# Altium schematic symbol library Schlib2.SchLib: 19 symbols
Pins are listed as number, name and electrical type; pins without a type are passive.

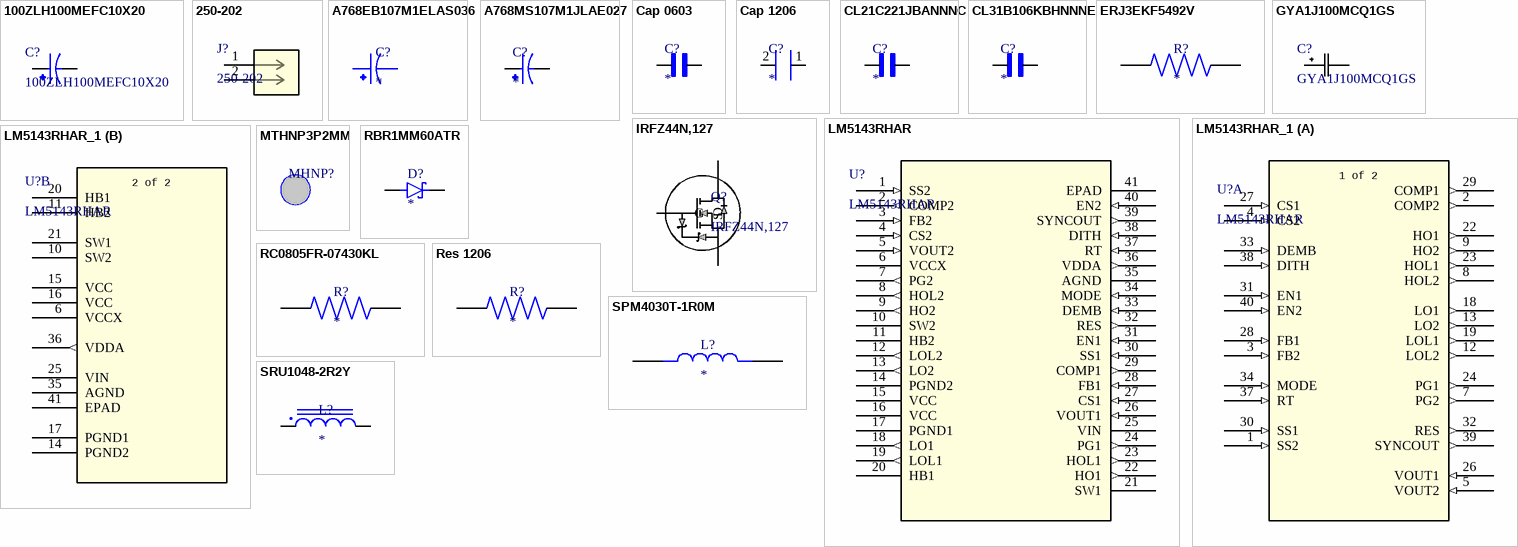
[diagram p0: symbols 100ZLH100MEFC10X20 to SRU1048-2R2Y]

## 100ZLH100MEFC10X20
designator C?
Description; Manufacturer_Name: Rubycon; Copyright: Copyright (C) 2025 Ultra Librarian. All rights reserved.; Manufacturer_Part_Number: 100ZLH100MEFC10X20
footprint CAP_YX_10X20_RUB
pins: 1, 2

## 250-202
designator J?
Description; Manufacturer_Name: Wago; Copyright: Copyright (C) 2025 Ultra Librarian. All rights reserved.; Manufacturer_Part_Number: 250-202; RefDes: RefDes; Type: Type
footprint CONN2_250-202_WAG
pins: 1, 2

## A768EB107M1ELAS036
designator C?
100 ÂµF 25 V Aluminum - Polymer Capacitors Radial, Can - SMD 36mOhm 2000 Hrs @ 125Â°C; MF: KEMET; MP: A768EB107M1ELAS036; SnapEDA_Link: https://www.snapeda.com/parts/A768EB107M1ELAS036/Kemet/view-part/?ref=snap; Package: None; Value: *; Check_prices: https://www.snapeda.com/parts/A768EB107M1ELAS036/Kemet/view-part/?ref=eda
footprint CAPAE660X600N
pins: 1, 2

## A768MS107M1JLAE027
designator C?
100 ÂµF 63 V Aluminum - Polymer Capacitors Radial, Can - SMD 27mOhm 2000 Hrs @ 125Â°C; MF: KEMET; MP: A768MS107M1JLAE027; SnapEDA_Link: https://www.snapeda.com/parts/A768MS107M1JLAE027/Kemet/view-part/?ref=snap; Package: None; Value: *; Check_prices: https://www.snapeda.com/parts/A768MS107M1JLAE027/Kemet/view-part/?ref=eda
footprint CAPAE1030X1225N
pins: 1, 2

## Cap 0603
designator C?
0603 (1608 Metric) 0.47 ÂµF Â±10% 25V Ceramic Capacitor X7R Originally: CL10B474KA8NFNC; MF: Samsung Electro-Mechanics; SnapEDA_Link: https://www.snapeda.com/parts/CL10B474KA8NFNC/Samsung/view-part/?ref=snap; Package: SMD-2 Samsung; Value: *; MP: CL10B474KA8NFNC; Check_prices: https://www.snapeda.com/parts/CL10B474KA8NFNC/Samsung/view-part/?ref=eda
footprint CAPC1608X90N
pins: 1, 2

## Cap 1206
designator C?
Generic SMD capacitor with 1206 package (3216 metric)
footprint Cap 1206 (Generic SMD capacitor with 1206 package (3216 metric))
pins: 1, 2

## CL21C221JBANNNC
designator C?
0805 (2012 Metric) 220 pF Â±5% 50V Ceramic Capacitor C0G, NP0; MF: Samsung; MP: CL21C221JBANNNC; SnapEDA_Link: https://www.snapeda.com/parts/CL21C221JBANNNC/Samsung/view-part/?ref=snap; Package: SMD-2 Samsung; Value: *; Check_prices: https://www.snapeda.com/parts/CL21C221JBANNNC/Samsung/view-part/?ref=eda
footprint CAPC2012X75N
pins: 1, 2

## CL31B106KBHNNNE
designator C?
10 ÂµF Â±10% 50V Ceramic Capacitor X7R 1206 (3216 Metric); MF: Samsung Electro-Mechanics; MP: CL31B106KBHNNNE; SnapEDA_Link: https://www.snapeda.com/parts/CL31B106KBHNNNE/Samsung/view-part/?ref=snap; Package: SMD-2 Samsung; Value: *; Check_prices: https://www.snapeda.com/parts/CL31B106KBHNNNE/Samsung/view-part/?ref=eda
footprint CAPC3216X180N
pins: 1, 2

## ERJ3EKF5492V
designator R?
Res Thick Film 0603 54.9K Ohm 1% 1/10W Â±100ppm/Â°C Molded SMD SMD Punched Carrier T/R; MF: Panasonic; MP: ERJ3EKF5492V; SnapEDA_Link: https://www.snapeda.com/parts/ERJ3EKF5492V/Panasonic/view-part/?ref=snap; Package: 1608-2 Panasonic; Value: *; Check_prices: https://www.snapeda.com/parts/ERJ3EKF5492V/Panasonic/view-part/?ref=eda
footprint RES_ERJ3EKF5492V
pins: 1, 2

## GYA1J100MCQ1GS
designator C?
Description; Manufacturer_Name: Nichicon; Copyright: Copyright (C) 2026 Ultra Librarian. All rights reserved.; Manufacturer_Part_Number: GYA1J100MCQ1GS
footprint CAP_GY_6P3X5P8_NCH
pins: 1, 2

## IRFZ44N,127
designator Q?
Power Switching Mosfet; Manufacturer_Name: NXP; Copyright: Copyright (C) 2025 Ultra Librarian. All rights reserved.; Manufacturer_Part_Number: IRFZ44N,127; RefDes: RefDes; Type: Type
footprint SOT78_TO220_NXP
pins: 1 G (oc), 2 D, 3 S

## LM5143RHAR
designator U?
3.5-V to 65-V, dual-output, stackable, synchronous buck DC/DC controller with ultra-low IQ 40-VQFN -40 to 150; Manufacturer_Name: Texas Instruments; Copyright: Copyright (C) 2025 Ultra Librarian. All rights reserved.; Manufacturer_Part_Number: LM5143RHAR; RefDes: RefDes; Type: Type
footprint VQFN40_RHA_TEX-L
pins: 1 SS2 (in), 2 COMP2 (out), 3 FB2 (in), 4 CS2 (in), 5 VOUT2 (in), 6 VCCX (power), 7 PG2 (out), 8 HOL2 (out), 9 HO2 (out), 10 SW2 (power), 11 HB2 (power), 12 LOL2 (out), 13 LO2 (out), 14 PGND2 (power), 15 VCC (power), 16 VCC (power), 17 PGND1 (power), 18 LO1 (out), 19 LOL1 (out), 20 HB1 (power), 21 SW1 (power), 22 HO1 (out), 23 HOL1 (out), 24 PG1 (out), 25 VIN (power), 26 VOUT1 (in), 27 CS1 (in), 28 FB1 (in), 29 COMP1 (out), 30 SS1 (in), 31 EN1 (in), 32 RES (out), 33 DEMB (in), 34 MODE (in), 35 AGND (power), 36 VDDA (out), 37 RT (in), 38 DITH (in), 39 SYNCOUT (out), 40 EN2 (in), 41 EPAD (power)

## LM5143RHAR_1
designator U?, comment LM5143RHAR
3.5-V to 65-V, dual-output, stackable, synchronous buck DC/DC controller with ultra-low IQ 40-VQFN -40 to 150; Manufacturer_Name: Texas Instruments; Copyright: Copyright (C) 2026 Ultra Librarian. All rights reserved.; Manufacturer_Part_Number: LM5143RHAR; RefDes: RefDes; Type: Type
footprint VQFN40_RHA_TEX-L
part A pins: 1 SS2 (in), 2 COMP2 (out), 3 FB2 (in), 4 CS2 (in), 5 VOUT2 (in), 7 PG2 (out), 8 HOL2 (out), 9 HO2 (out), 12 LOL2 (out), 13 LO2 (out), 18 LO1 (out), 19 LOL1 (out), 22 HO1 (out), 23 HOL1 (out), 24 PG1 (out), 26 VOUT1 (in), 27 CS1 (in), 28 FB1 (in), 29 COMP1 (out), 30 SS1 (in), 31 EN1 (in), 32 RES (out), 33 DEMB (in), 34 MODE (in), 37 RT (in), 38 DITH (in), 39 SYNCOUT (out), 40 EN2 (in)
part B pins: 6 VCCX (power), 10 SW2 (power), 11 HB2 (power), 14 PGND2 (power), 15 VCC (power), 16 VCC (power), 17 PGND1 (power), 20 HB1 (power), 21 SW1 (power), 25 VIN (power), 35 AGND (power), 36 VDDA (out), 41 EPAD (power)
part A text: 1 of 2
part B text: 2 of 2

## MTHNP3P2MM
designator MHNP?, comment Mounting Hole Non-Plated 3.2 mm  (value not drawn)
footprint MTHNP3P2MM (Mounting Hole Non Plated 3.2 mm hole)

## RBR1MM60ATR
designator D?
DIODE SCHOTTKY 60V 1A PMDU; MP: IDK05G120C5XTMA1; MF: Infineon Technologies; Package: TO-263-3 Infineon Technologies; SnapEDA_Link: https://www.snapeda.com/parts/IDK05G120C5XTMA1/Infineon%20Technologies/view-part/4703675/?ref=snap; Value: *; Availability: In Stock; Price: None; Check_prices: https://www.snapeda.com/parts/IDK05G120C5XTMA1/Infineon%20Technologies/view-part/4703675/?ref=eda
footprint DIO_RB051MM_ROM
pins: 1 C, 2 A

## RC0805FR-07430KL
designator R?
Generic 0805 Res; Original: 430 kOhms Â±1% 0.125W, 1/8W Chip Resistor 0805 (2012 Metric) Moisture Resistant Thick Film RC0805FR-07430KL; MF: Yageo; SnapEDA_Link: https://www.snapeda.com/parts/RC0805FR-07430KL/Yageo/view-part/?ref=snap; Package: 2012 Yageo; Value: *; MP: RC0805FR-07430KL; Check_prices: https://www.snapeda.com/parts/RC0805FR-07430KL/Yageo/view-part/?ref=eda
footprint RES0805 (Generic 0805 Res;)
pins: 1, 2

## Res 1206
designator R?
Generic SMD resistor with 1206 package (3216 metric)
footprint Res 1206
pins: 1, 2

## SPM4030T-1R0M
designator L?
MF: {'manufacturer': u'TDK Corporation'}; MP: SPM4030T-1R0M; Package: None; Price: None; Value: *; Availability: Unavailable
footprint IND_SPM4030T-1R0M
pins: 1, 2

## SRU1048-2R2Y
designator L?
Ind10x10x4.8mm,2.2uH30%6.5A,shdSMD | Bourns SRU1048-2R2Y; SnapEDA_Link: https://www.snapeda.com/parts/SRU1048-2R2Y/Bourns/view-part/?ref=snap; Package: Non Standard Bourns; Value: *; MF: Bourns; MP: SRU1048-2R2Y; Check_prices: https://www.snapeda.com/parts/SRU1048-2R2Y/Bourns/view-part/?ref=eda
footprint IND_SRU1048-2R2Y
pins: 1, 2